# Altium footprint library con_molex_8_52207-0833.PcbLib: 1 footprints
Each footprint in its own frame and in the unit in brackets; x right, y up, seen from the top. Pads: shape width x height; smd on the part's side, far side on the other; paste and mask are expansions set on the pad; w line width, h text height; cw(c..) or ccw(c..) is an arc to the next point about the centre after c.
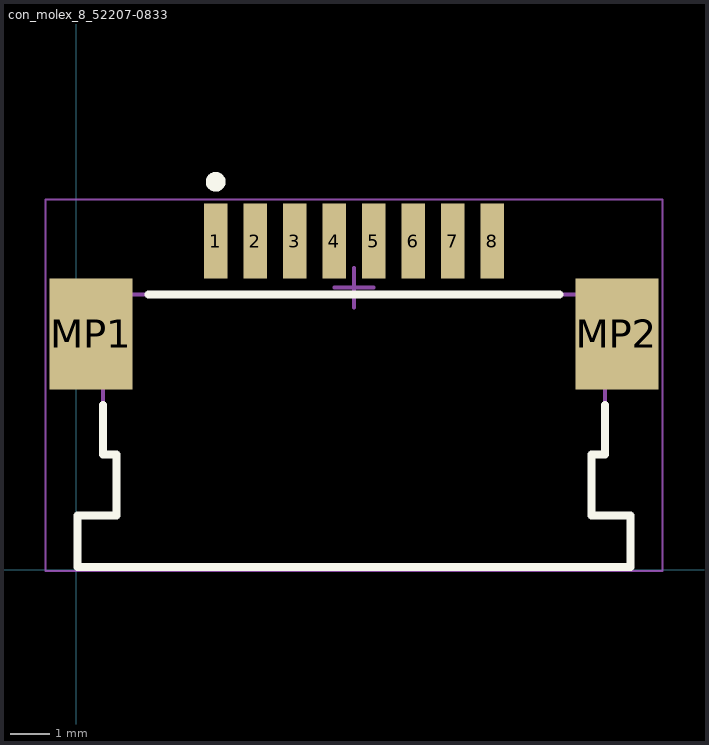
[diagram p0: the footprint, top view; thin cyan lines are the x and y axes]

## con_molex_8_52207-0833 [mm]
pads (10):
  rect 0.6x1.9 smd: 1(3.531,8.319) 2(4.531,8.319) 3(5.531,8.319) 4(6.531,8.319) 5(7.531,8.319) 6(8.531,8.319) 7(9.531,8.319) 8(10.531,8.319)
  rect 2.1x2.8 smd: MP1(0.381,5.969) MP2(13.681,5.969)
Top Overlay:
  circle w0.25: c3.531,9.819 r0.125
  lines w0.2: 0.681,4.169 0.681,2.919 1.018,2.919 1.019,1.379 0.031,1.379 0.031,0.069 14.031,0.069 14.031,1.379 13.043,1.379 13.043,2.919 ; 1.831,6.969 12.231,6.969 ; 13.044,2.919 13.381,2.919 13.381,4.169
Top 3D Body:
  lines w0.1: -0.119,4.969 0.681,4.969 0.681,2.919 1.018,2.919 1.019,1.379 0.031,1.379 0.031,0.069 14.031,0.069 14.031,1.379 13.043,1.379 13.043,2.919 13.381,2.919 13.381,4.969 14.181,4.969 14.181,6.969 -0.119,6.969 -0.119,4.969
Top Courtyard:
  lines w0.05: -0.769,-0.031 14.831,-0.031 14.831,9.369 -0.769,9.369 -0.769,-0.031
  lines w0.1: 6.531,7.144 7.531,7.144 ; 7.031,6.644 7.031,7.644
3D body "522070833.stp": height 2.71, standoff 0.01, extent -0.119,0.069 14.181,8.969